# EAGLE library part SLG51000W (library GREENPAK)
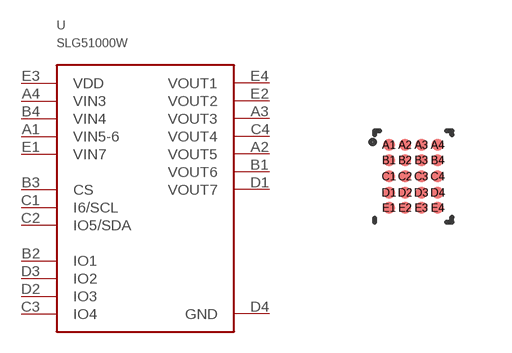
[diagram p52: symbol with the pads of WLCSP-20-1.675X2.075-A; footprint WLCSP-20-1.675X2.075-A]

Designator prefix -

## SLG51000W  [WLCSP-20-1.675X2.075-A]
A1  VIN5-6
A2  VOUT5
A3  VOUT3
A4  VIN3
B1  VOUT6
B2  IO1
B3  CS
B4  VIN4
C1  I6/SCL
C2  IO5/SDA
C3  IO4
C4  VOUT4
D1  VOUT7
D2  IO3
D3  IO2
D4  GND
E1  VIN7
E2  VOUT2
E3  VDD
E4  VOUT1

## Footprint WLCSP-20-1.675X2.075-A (pad centres in mm)
smd 0.305 x 0.305: A1 -0.61,0.787; A2 -0.203,0.787; A3 0.203,0.787; A4 0.61,0.787; B1 -0.61,0.406; B2 -0.203,0.406; B3 0.203,0.406; B4 0.61,0.406; C1 -0.61,0; C2 -0.203,0; C3 0.203,0; C4 0.61,0; D1 -0.61,-0.406; D2 -0.203,-0.406; D3 0.203,-0.406; D4 0.61,-0.406; E1 -0.61,-0.787; E2 -0.203,-0.787; E3 0.203,-0.787; E4 0.61,-0.787